# Altium schematic symbol library CONN_TP_SMD.SchLib: 1 symbol
Pins are listed as number, name and electrical type; pins without a type are passive.

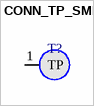
[diagram p0: symbol CONN_TP_SMD]

## CONN_TP_SMD
designator T?  (value not drawn)
Test Point
footprint CONN_TP_SMD
pins: 1 TP